# EAGLE library part PINHD-1X7 (library Gekkio-connector)
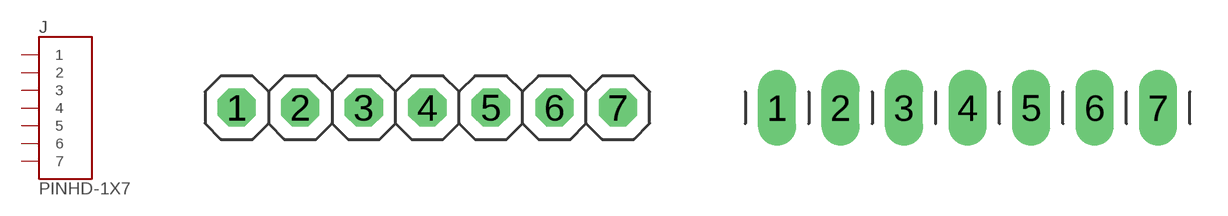
[diagram p2: symbol with the pads of 1X7; footprints 1X7, 1X7-LONGPADS]

Designator prefix J

## PINHD-1X7  [1X7]
1  1  pas
2  2  pas
3  3  pas
4  4  pas
5  5  pas
6  6  pas
7  7  pas

## PINHD-1X7LONGPADS  [1X7-LONGPADS]
Pads as for 1X7

## Footprint 1X7 (pad centres in mm)
drill 1.016 octagon: 1 -7.62,0; 2 -5.08,0; 3 -2.54,0; 4 0,0; 5 2.54,0; 6 5.08,0; 7 7.62,0

## Footprint 1X7-LONGPADS (pad centres in mm)
drill 1.016 long: 1 -7.62,0; 2 -5.08,0; 3 -2.54,0; 4 0,0; 5 2.54,0; 6 5.08,0; 7 7.62,0